# Altium schematic symbol library Microcontroller tinyAVR.SchLib: 370 symbols (part 2 of 11)
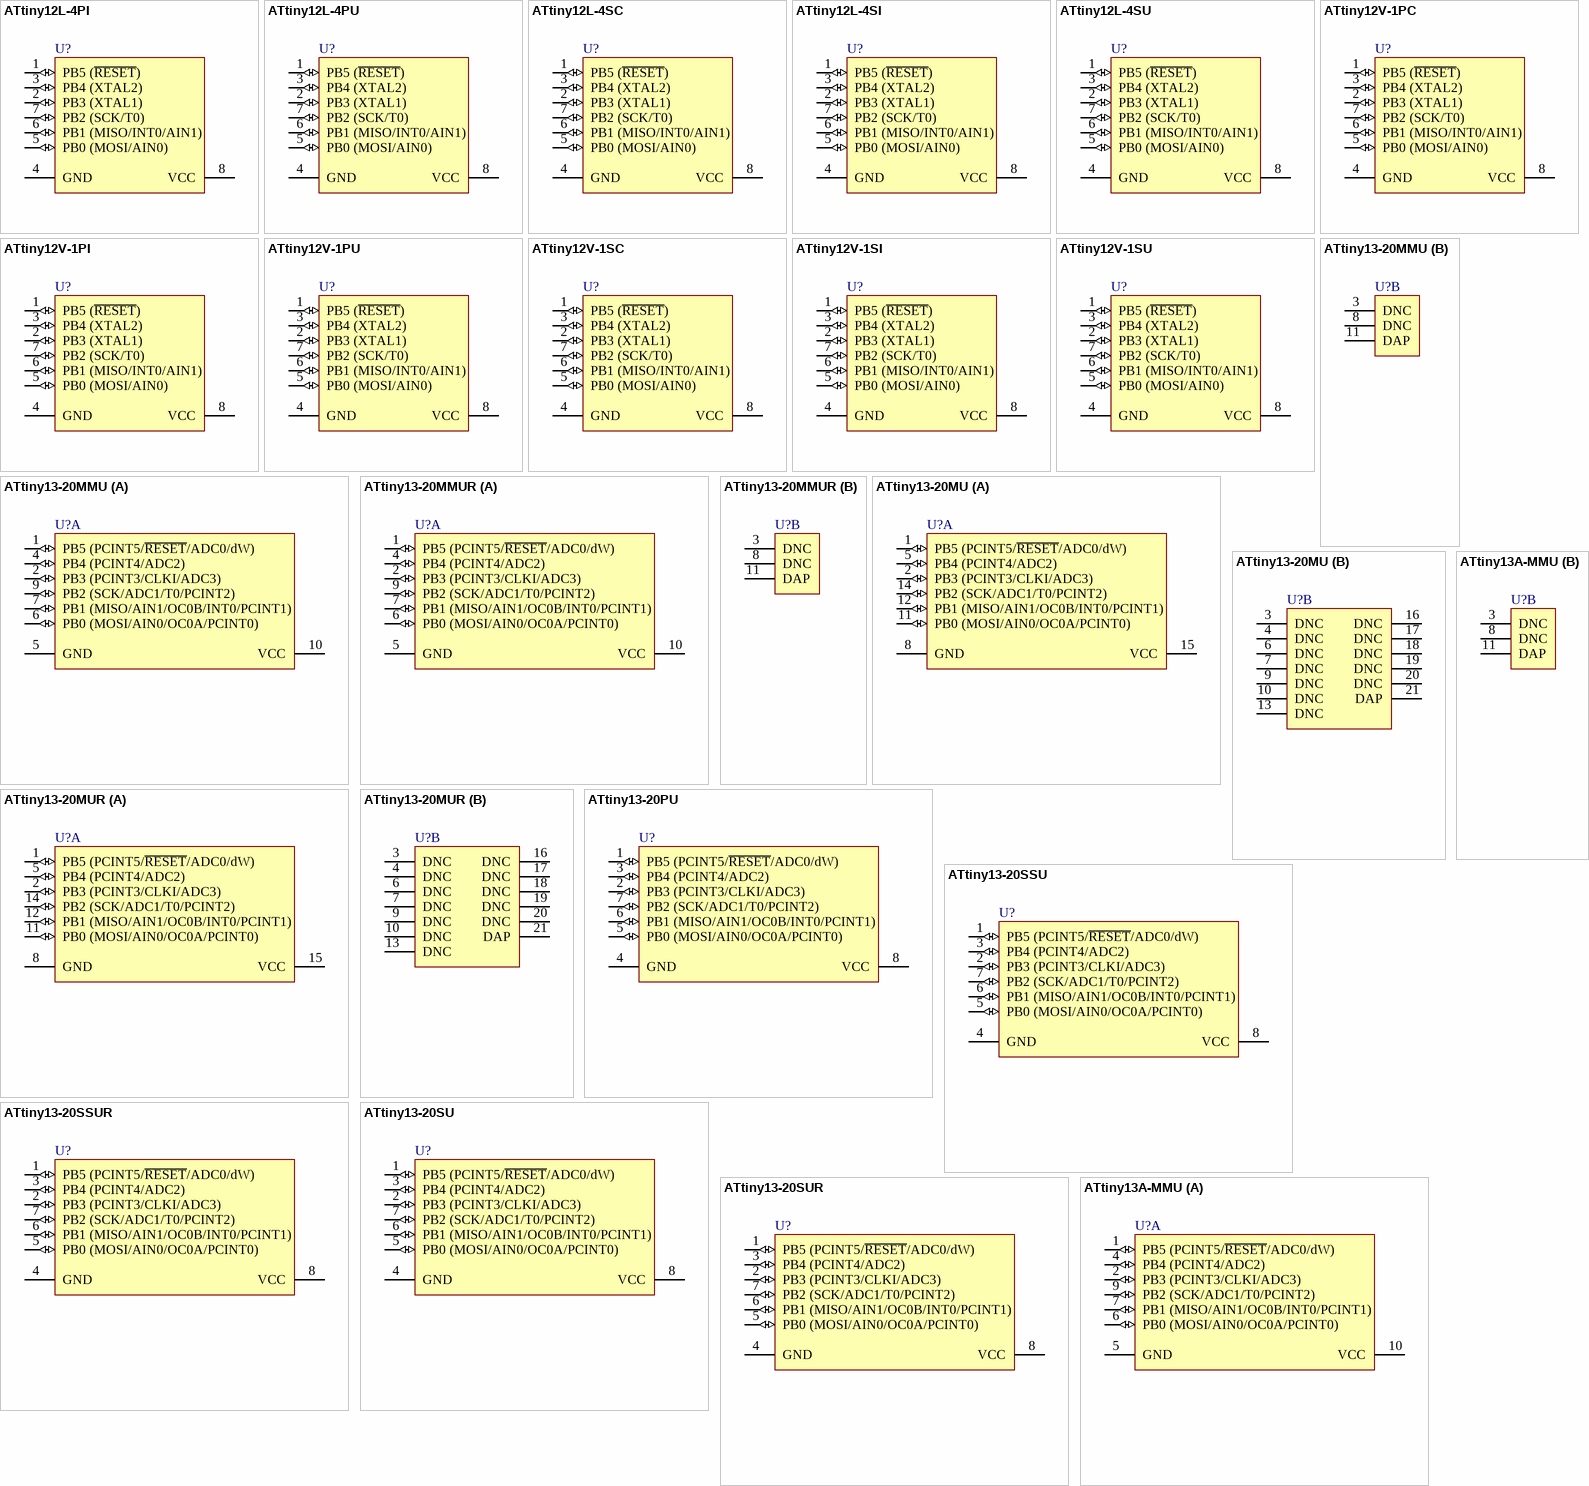
[diagram p27: symbols ATtiny12L-4PI to ATtiny13A-MMU]

## ATtiny13-20PU
designator U?
8-bit AVR Microcontroller, 2.7-5.5V, 1KB Flash, 64 Bytes EEPROM, 64 Bytes SRAM, 8-pin PDIP, Industrial Grade (-40°C to 85°C), Pb-Free; DatasheetVersion: revJ, Aug-2010; PackageVersion: revB, Jan-2002; PackageReference: 8P3; PackageDescription: 8-Lead, 0.300" Wide Body, Plastic Dual In-Line Package (PDIP); Code_JEDEC: MS-001-BA; ComponentLink1Description: Manufacturer URL; ComponentLink1URL: http://www.atmel.com/; ComponentLink2Description: ATtiny13  Datasheet; ComponentLink2URL: http://www.atmel.com/dyn/resources/prod_documents/doc2535.pdf; ComponentLink3Description: ATtiny13 Summary; ComponentLink3URL: http://www.atmel.com/dyn/resources/prod_documents/2535S.pdf
footprint 8P3 (DIP, 8-Leads, Row Spacing 7.62mm, Pitch 2.54mm, Body 9.59x6.61mm)
pins: 1 PB5 (PCINT5/~{RESET}/ADC0/dW) (io), 2 PB3 (PCINT3/CLKI/ADC3) (io), 3 PB4 (PCINT4/ADC2) (io), 4 GND (power), 5 PB0 (MOSI/AIN0/OC0A/PCINT0) (io), 6 PB1 (MISO/AIN1/OC0B/INT0/PCINT1) (io), 7 PB2 (SCK/ADC1/T0/PCINT2) (io), 8 VCC (power)

## ATtiny13-20SSU
designator U?
8-bit AVR Microcontroller, 2.7-5.5V, 1KB Flash, 64 Bytes EEPROM, 64 Bytes SRAM, 8-pin SOIC, Industrial Grade (-40°C to 85°C), Pb-Free; DatasheetVersion: revJ, Aug-2010; PackageVersion: revA, Oct-2001; PackageReference: S8S1; PackageDescription: 8-Lead (0.150" Wide Body), Plastic Gull Wing Small Outline (JEDEC SOIC); Code_JEDEC: MS-012; Code_IPC: SOIC127P600-8; ComponentLink1Description: Manufacturer URL; ComponentLink1URL: http://www.atmel.com/; ComponentLink2Description: ATtiny13  Datasheet; ComponentLink2URL: http://www.atmel.com/dyn/resources/prod_documents/doc2535.pdf; ComponentLink3Description: ATtiny13 Summary; ComponentLink3URL: http://www.atmel.com/dyn/resources/prod_documents/2535S.pdf
footprint S8S1_N (SOIC, 8-Leads, Body 4.9x3.9mm, Pitch 1.27mm, IPC Medium Density)
footprint S8S1_L (SOIC, 8-Leads, Body 4.9x3.9mm, Pitch 1.27mm, IPC High Density)
footprint S8S1_M (SOIC, 8-Leads, Body 4.9x3.9mm, Pitch 1.27mm, IPC Low Density)
pins: 1 PB5 (PCINT5/~{RESET}/ADC0/dW) (io), 2 PB3 (PCINT3/CLKI/ADC3) (io), 3 PB4 (PCINT4/ADC2) (io), 4 GND (power), 5 PB0 (MOSI/AIN0/OC0A/PCINT0) (io), 6 PB1 (MISO/AIN1/OC0B/INT0/PCINT1) (io), 7 PB2 (SCK/ADC1/T0/PCINT2) (io), 8 VCC (power)

## ATtiny13-20SSUR
designator U?
8-bit AVR Microcontroller, 2.7-5.5V, 1KB Flash, 64 Bytes EEPROM, 64 Bytes SRAM, 8-pin SOIC, Industrial Grade (-40°C to 85°C), Pb-Free, Reel; DatasheetVersion: revJ, Aug-2010; PackageVersion: revA, Oct-2001; PackageReference: S8S1; PackageDescription: 8-Lead (0.150" Wide Body), Plastic Gull Wing Small Outline (JEDEC SOIC); Code_JEDEC: MS-012; Code_IPC: SOIC127P600-8; ComponentLink1Description: Manufacturer URL; ComponentLink1URL: http://www.atmel.com/; ComponentLink2Description: ATtiny13  Datasheet; ComponentLink2URL: http://www.atmel.com/dyn/resources/prod_documents/doc2535.pdf; ComponentLink3Description: ATtiny13 Summary; ComponentLink3URL: http://www.atmel.com/dyn/resources/prod_documents/2535S.pdf
footprint S8S1_N (SOIC, 8-Leads, Body 4.9x3.9mm, Pitch 1.27mm, IPC Medium Density)
footprint S8S1_L (SOIC, 8-Leads, Body 4.9x3.9mm, Pitch 1.27mm, IPC High Density)
footprint S8S1_M (SOIC, 8-Leads, Body 4.9x3.9mm, Pitch 1.27mm, IPC Low Density)
pins: 1 PB5 (PCINT5/~{RESET}/ADC0/dW) (io), 2 PB3 (PCINT3/CLKI/ADC3) (io), 3 PB4 (PCINT4/ADC2) (io), 4 GND (power), 5 PB0 (MOSI/AIN0/OC0A/PCINT0) (io), 6 PB1 (MISO/AIN1/OC0B/INT0/PCINT1) (io), 7 PB2 (SCK/ADC1/T0/PCINT2) (io), 8 VCC (power)

## ATtiny13-20SU
designator U?
8-bit AVR Microcontroller, 2.7-5.5V, 1KB Flash, 64 Bytes EEPROM, 64 Bytes SRAM, 8-pin SOIC, Industrial Grade (-40°C to 85°C), Pb-Free; DatasheetVersion: revJ, Aug-2010; PackageVersion: revF, Apr-2008; PackageReference: 8S2; PackageDescription: 8-Lead, 0.208" Body, Plastic Small Outline Package (EIAJ); ComponentLink1Description: Manufacturer URL; ComponentLink1URL: http://www.atmel.com/; ComponentLink2Description: ATtiny13  Datasheet; ComponentLink2URL: http://www.atmel.com/dyn/resources/prod_documents/doc2535.pdf; ComponentLink3Description: ATtiny13 Summary; ComponentLink3URL: http://www.atmel.com/dyn/resources/prod_documents/2535S.pdf
footprint 8S2_N (SOP, 8-Leads, Body 5.3x5.3mm, Pitch 1.27mm, IPC Medium Density)
footprint 8S2_L (SOP, 8-Leads, Body 5.3x5.3mm, Pitch 1.27mm, IPC High Density)
footprint 8S2_M (SOP, 8-Leads, Body 5.3x5.3mm, Pitch 1.27mm, IPC Low Density)
pins: 1 PB5 (PCINT5/~{RESET}/ADC0/dW) (io), 2 PB3 (PCINT3/CLKI/ADC3) (io), 3 PB4 (PCINT4/ADC2) (io), 4 GND (power), 5 PB0 (MOSI/AIN0/OC0A/PCINT0) (io), 6 PB1 (MISO/AIN1/OC0B/INT0/PCINT1) (io), 7 PB2 (SCK/ADC1/T0/PCINT2) (io), 8 VCC (power)

## ATtiny13-20SUR
designator U?
8-bit AVR Microcontroller, 2.7-5.5V, 1KB Flash, 64 Bytes EEPROM, 64 Bytes SRAM, 8-pin SOIC, Industrial Grade (-40°C to 85°C), Pb-Free, Reel; DatasheetVersion: revJ, Aug-2010; PackageVersion: revF, Apr-2008; PackageReference: 8S2; PackageDescription: 8-Lead, 0.208" Body, Plastic Small Outline Package (EIAJ); ComponentLink1Description: Manufacturer URL; ComponentLink1URL: http://www.atmel.com/; ComponentLink2Description: ATtiny13  Datasheet; ComponentLink2URL: http://www.atmel.com/dyn/resources/prod_documents/doc2535.pdf; ComponentLink3Description: ATtiny13 Summary; ComponentLink3URL: http://www.atmel.com/dyn/resources/prod_documents/2535S.pdf
footprint 8S2_N (SOP, 8-Leads, Body 5.3x5.3mm, Pitch 1.27mm, IPC Medium Density)
footprint 8S2_L (SOP, 8-Leads, Body 5.3x5.3mm, Pitch 1.27mm, IPC High Density)
footprint 8S2_M (SOP, 8-Leads, Body 5.3x5.3mm, Pitch 1.27mm, IPC Low Density)
pins: 1 PB5 (PCINT5/~{RESET}/ADC0/dW) (io), 2 PB3 (PCINT3/CLKI/ADC3) (io), 3 PB4 (PCINT4/ADC2) (io), 4 GND (power), 5 PB0 (MOSI/AIN0/OC0A/PCINT0) (io), 6 PB1 (MISO/AIN1/OC0B/INT0/PCINT1) (io), 7 PB2 (SCK/ADC1/T0/PCINT2) (io), 8 VCC (power)

## ATtiny13A-MMU
designator U?
8-bit AVR Microcontroller, 1.8-5.5V, 20MHz, 1KB Flash, 64 Bytes EEPROM, 64 Bytes SRAM, 10-pin MLF, Industrial Grade (-40°C to 85°C), Pb-Free; DatasheetVersion: revE, Jul-2010; PackageVersion: revA, Jul-2006; PackageReference: 10M1; PackageDescription: 10-pad, 3 x 3 x 1.0 mm Body, Lead Pitch 0.50 mm, 1.64 x 2.60 mm Exposed pad, Micro Lead Frame Package; Code_JEDEC: MO-229-VEED-5; ComponentLink1Description: Manufacturer URL; ComponentLink1URL: http://www.atmel.com/; ComponentLink2Description: ATtiny13A Datasheet; ComponentLink2URL: http://www.atmel.com/dyn/resources/prod_documents/doc8126.pdf; ComponentLink3Description: ATtiny13A Summary; ComponentLink3URL: http://www.atmel.com/dyn/resources/prod_documents/8126S.pdf
footprint 10M1_N (SON, 10-Leads, Body 3x3 mm, Pitch 0.5mm, IPC Medium Density)
footprint 10M1_L (SON, 10-Leads, Body 3x3 mm, Pitch 0.5mm, IPC High Density)
footprint 10M1_M (SON, 10-Leads, Body 3x3 mm, Pitch 0.5mm, IPC Low Density)
part A pins: 1 PB5 (PCINT5/~{RESET}/ADC0/dW) (io), 2 PB3 (PCINT3/CLKI/ADC3) (io), 4 PB4 (PCINT4/ADC2) (io), 5 GND (power), 6 PB0 (MOSI/AIN0/OC0A/PCINT0) (io), 7 PB1 (MISO/AIN1/OC0B/INT0/PCINT1) (io), 9 PB2 (SCK/ADC1/T0/PCINT2) (io), 10 VCC (power)
part B pins: 3 DNC, 8 DNC, 11 DAP

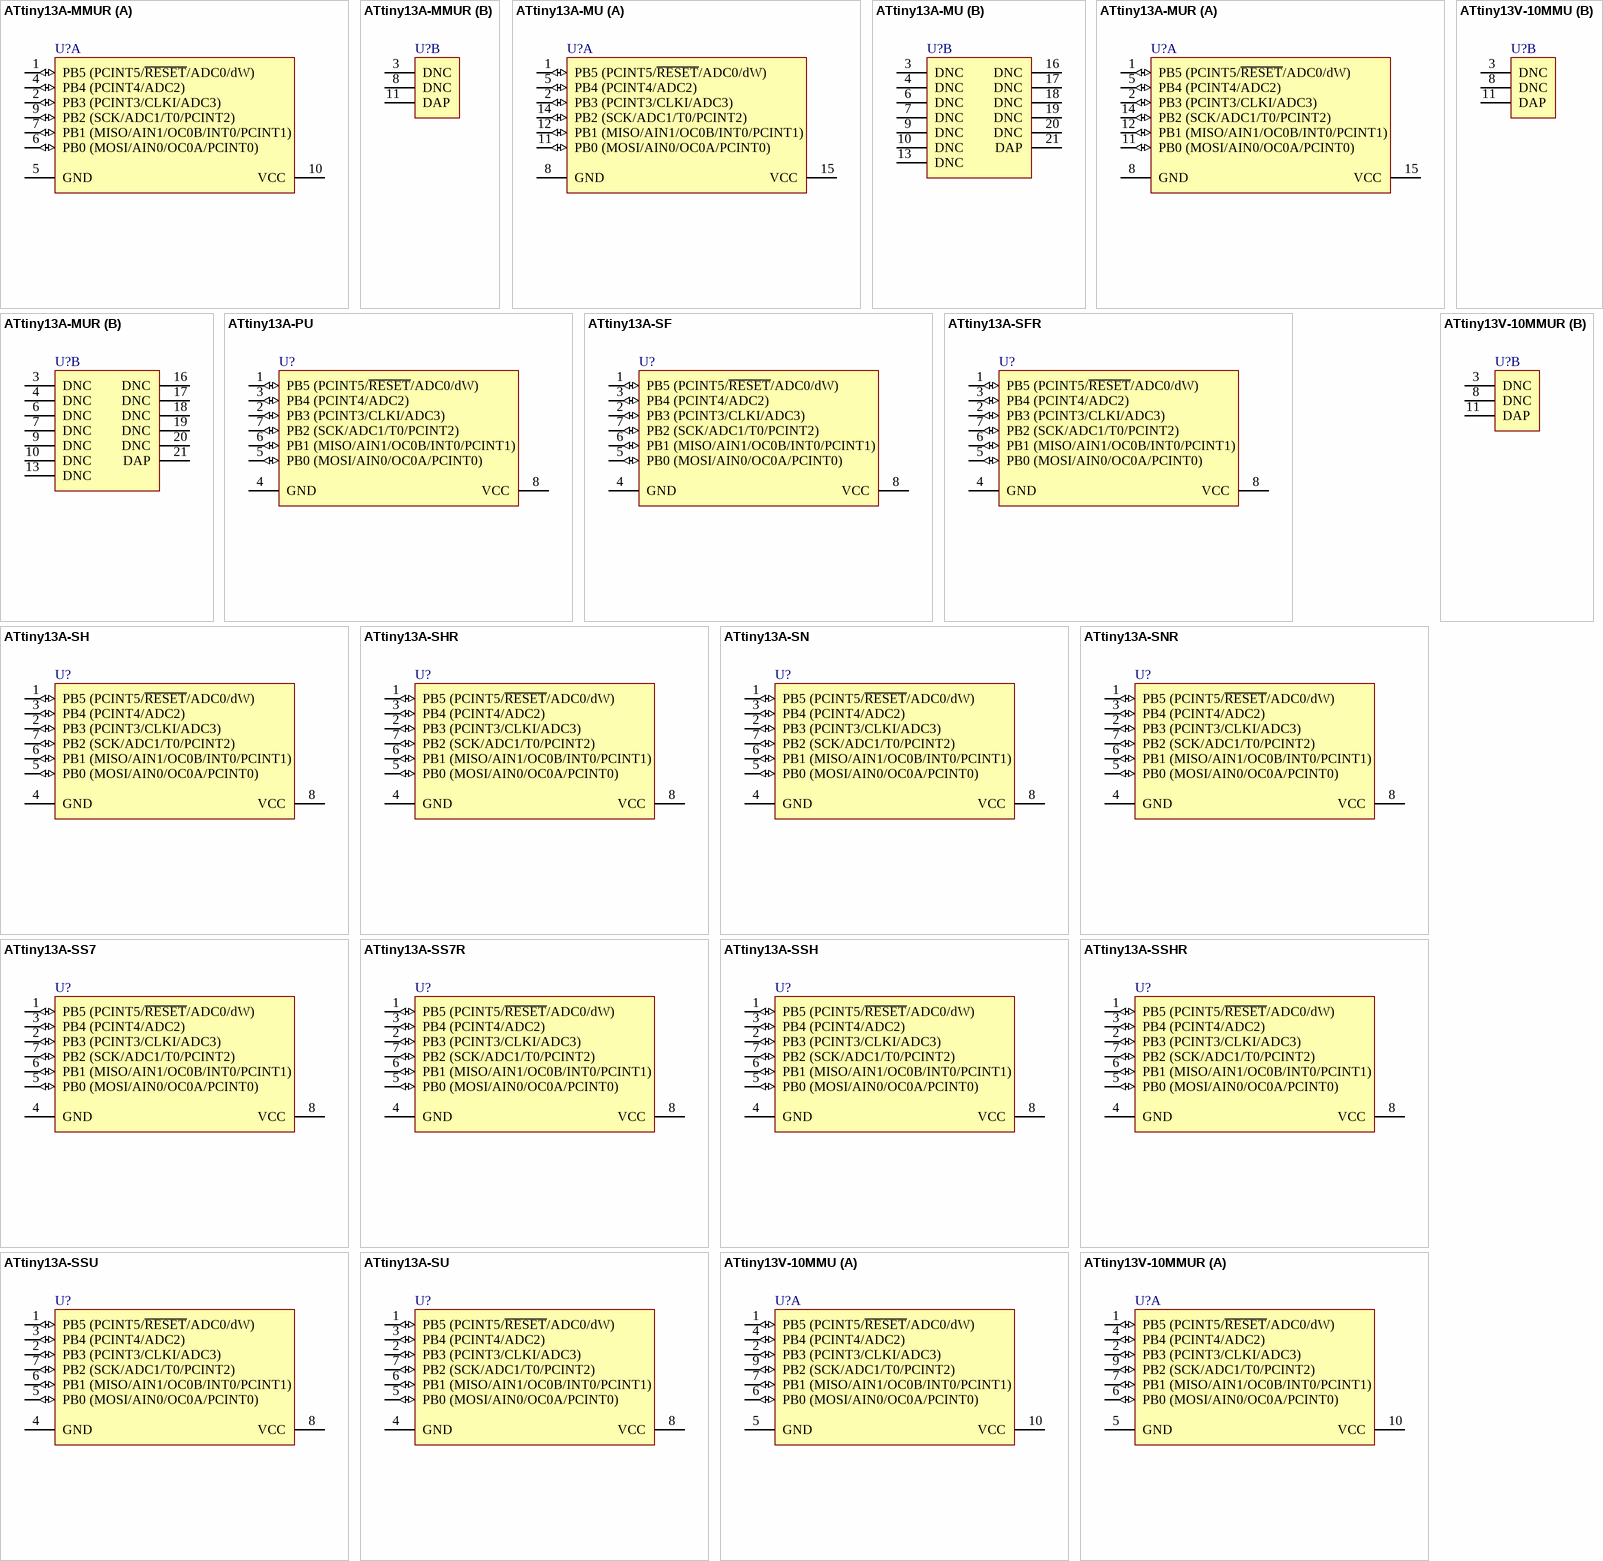
[diagram p2: symbols ATtiny13A-MMUR to ATtiny13V-10MMUR]

## ATtiny13A-MMUR
designator U?
8-bit AVR Microcontroller, 1.8-5.5V, 20MHz, 1KB Flash, 64 Bytes EEPROM, 64 Bytes SRAM, 10-pin MLF, Industrial Grade (-40°C to 85°C), Pb-Free, Reel; DatasheetVersion: revE, Jul-2010; PackageVersion: revA, Jul-2006; PackageReference: 10M1; PackageDescription: 10-pad, 3 x 3 x 1.0 mm Body, Lead Pitch 0.50 mm, 1.64 x 2.60 mm Exposed pad, Micro Lead Frame Package; Code_JEDEC: MO-229-VEED-5; ComponentLink1Description: Manufacturer URL; ComponentLink1URL: http://www.atmel.com/; ComponentLink2Description: ATtiny13A Datasheet; ComponentLink2URL: http://www.atmel.com/dyn/resources/prod_documents/doc8126.pdf; ComponentLink3Description: ATtiny13A Summary; ComponentLink3URL: http://www.atmel.com/dyn/resources/prod_documents/8126S.pdf
footprint 10M1_N (SON, 10-Leads, Body 3x3 mm, Pitch 0.5mm, IPC Medium Density)
footprint 10M1_L (SON, 10-Leads, Body 3x3 mm, Pitch 0.5mm, IPC High Density)
footprint 10M1_M (SON, 10-Leads, Body 3x3 mm, Pitch 0.5mm, IPC Low Density)
part A pins: 1 PB5 (PCINT5/~{RESET}/ADC0/dW) (io), 2 PB3 (PCINT3/CLKI/ADC3) (io), 4 PB4 (PCINT4/ADC2) (io), 5 GND (power), 6 PB0 (MOSI/AIN0/OC0A/PCINT0) (io), 7 PB1 (MISO/AIN1/OC0B/INT0/PCINT1) (io), 9 PB2 (SCK/ADC1/T0/PCINT2) (io), 10 VCC (power)
part B pins: 3 DNC, 8 DNC, 11 DAP

## ATtiny13A-MU
designator U?
8-bit AVR Microcontroller, 1.8-5.5V, 20MHz, 1KB Flash, 64 Bytes EEPROM, 64 Bytes SRAM, 20-pin MLF, Industrial Grade (-40°C to 85°C), Pb-Free; DatasheetVersion: revE, Jul-2010; PackageVersion: revA, Oct-2004; PackageReference: 20M1; PackageDescription: 20-pad, 4 x 4 x 0.8 mm Body, Lead Pitch 0.50 mm, 2.6 mm Exposed Pad, Micro Lead Frame Package (MLF); Code_JEDEC: MO-220WGGD-5; ComponentLink1Description: Manufacturer URL; ComponentLink1URL: http://www.atmel.com/; ComponentLink2Description: ATtiny13A Datasheet; ComponentLink2URL: http://www.atmel.com/dyn/resources/prod_documents/doc8126.pdf; ComponentLink3Description: ATtiny13A Summary; ComponentLink3URL: http://www.atmel.com/dyn/resources/prod_documents/8126S.pdf
footprint 20M1_N (QFN, 20-Leads, Body 4x4mm, Pitch 0.5mm, Thermal Pad 2.7x2.7mm, IPC Medium Density)
footprint 20M1_L (QFN, 20-Leads, Body 4x4mm, Pitch 0.5mm, Thermal Pad 2.7x2.7mm, IPC High Density)
footprint 20M1_M (QFN, 20-Leads, Body 4x4mm, Pitch 0.5mm, Thermal Pad 2.7x2.7mm, IPC Low Density)
part A pins: 1 PB5 (PCINT5/~{RESET}/ADC0/dW) (io), 2 PB3 (PCINT3/CLKI/ADC3) (io), 5 PB4 (PCINT4/ADC2) (io), 8 GND (power), 11 PB0 (MOSI/AIN0/OC0A/PCINT0) (io), 12 PB1 (MISO/AIN1/OC0B/INT0/PCINT1) (io), 14 PB2 (SCK/ADC1/T0/PCINT2) (io), 15 VCC (power)
part B pins: 3 DNC, 4 DNC, 6 DNC, 7 DNC, 9 DNC, 10 DNC, 13 DNC, 16 DNC, 17 DNC, 18 DNC, 19 DNC, 20 DNC, 21 DAP (power)

## ATtiny13A-MUR
designator U?
8-bit AVR Microcontroller, 1.8-5.5V, 20MHz, 1KB Flash, 64 Bytes EEPROM, 64 Bytes SRAM, 20-pin MLF, Industrial Grade (-40°C to 85°C), Pb-Free, Reel; DatasheetVersion: revE, Jul-2010; PackageVersion: revA, Oct-2004; PackageReference: 20M1; PackageDescription: 20-pad, 4 x 4 x 0.8 mm Body, Lead Pitch 0.50 mm, 2.6 mm Exposed Pad, Micro Lead Frame Package (MLF); Code_JEDEC: MO-220WGGD-5; ComponentLink1Description: Manufacturer URL; ComponentLink1URL: http://www.atmel.com/; ComponentLink2Description: ATtiny13A Datasheet; ComponentLink2URL: http://www.atmel.com/dyn/resources/prod_documents/doc8126.pdf; ComponentLink3Description: ATtiny13A Summary; ComponentLink3URL: http://www.atmel.com/dyn/resources/prod_documents/8126S.pdf
footprint 20M1_N (QFN, 20-Leads, Body 4x4mm, Pitch 0.5mm, Thermal Pad 2.7x2.7mm, IPC Medium Density)
footprint 20M1_L (QFN, 20-Leads, Body 4x4mm, Pitch 0.5mm, Thermal Pad 2.7x2.7mm, IPC High Density)
footprint 20M1_M (QFN, 20-Leads, Body 4x4mm, Pitch 0.5mm, Thermal Pad 2.7x2.7mm, IPC Low Density)
part A pins: 1 PB5 (PCINT5/~{RESET}/ADC0/dW) (io), 2 PB3 (PCINT3/CLKI/ADC3) (io), 5 PB4 (PCINT4/ADC2) (io), 8 GND (power), 11 PB0 (MOSI/AIN0/OC0A/PCINT0) (io), 12 PB1 (MISO/AIN1/OC0B/INT0/PCINT1) (io), 14 PB2 (SCK/ADC1/T0/PCINT2) (io), 15 VCC (power)
part B pins: 3 DNC, 4 DNC, 6 DNC, 7 DNC, 9 DNC, 10 DNC, 13 DNC, 16 DNC, 17 DNC, 18 DNC, 19 DNC, 20 DNC, 21 DAP (power)

## ATtiny13A-PU
designator U?
8-bit AVR Microcontroller, 1.8-5.5V, 20MHz, 1KB Flash, 64 Bytes EEPROM, 64 Bytes SRAM, 8-pin PDIP, Industrial Grade (-40°C to 85°C), Pb-Free; DatasheetVersion: revE, Jul-2010; PackageVersion: revB, Jan-2002; PackageReference: 8P3; PackageDescription: 8-Lead, 0.300" Wide Body, Plastic Dual In-Line Package (PDIP); Code_JEDEC: MS-001-BA; ComponentLink1Description: Manufacturer URL; ComponentLink1URL: http://www.atmel.com/; ComponentLink2Description: ATtiny13A Datasheet; ComponentLink2URL: http://www.atmel.com/dyn/resources/prod_documents/doc8126.pdf; ComponentLink3Description: ATtiny13A Summary; ComponentLink3URL: http://www.atmel.com/dyn/resources/prod_documents/8126S.pdf
footprint 8P3 (DIP, 8-Leads, Row Spacing 7.62mm, Pitch 2.54mm, Body 9.59x6.61mm)
pins: 1 PB5 (PCINT5/~{RESET}/ADC0/dW) (io), 2 PB3 (PCINT3/CLKI/ADC3) (io), 3 PB4 (PCINT4/ADC2) (io), 4 GND (power), 5 PB0 (MOSI/AIN0/OC0A/PCINT0) (io), 6 PB1 (MISO/AIN1/OC0B/INT0/PCINT1) (io), 7 PB2 (SCK/ADC1/T0/PCINT2) (io), 8 VCC (power)

## ATtiny13A-SF
designator U?
8-bit AVR Microcontroller, 1.8-5.5V, 20MHz, 1KB Flash, 64 Bytes EEPROM, 64 Bytes SRAM, 8-pin SOIC, Industrial Grade (-40°C to 125°C), Pb-Free; DatasheetVersion: revE, Jul-2010; PackageVersion: revF, Apr-2008; PackageReference: 8S2; PackageDescription: 8-Lead, 0.208" Body, Plastic Small Outline Package (EIAJ); ComponentLink1Description: Manufacturer URL; ComponentLink1URL: http://www.atmel.com/; ComponentLink2Description: ATtiny13A Datasheet; ComponentLink2URL: http://www.atmel.com/dyn/resources/prod_documents/doc8126.pdf; ComponentLink3Description: ATtiny13A Summary; ComponentLink3URL: http://www.atmel.com/dyn/resources/prod_documents/8126S.pdf
footprint 8S2_N (SOP, 8-Leads, Body 5.3x5.3mm, Pitch 1.27mm, IPC Medium Density)
footprint 8S2_L (SOP, 8-Leads, Body 5.3x5.3mm, Pitch 1.27mm, IPC High Density)
footprint 8S2_M (SOP, 8-Leads, Body 5.3x5.3mm, Pitch 1.27mm, IPC Low Density)
pins: 1 PB5 (PCINT5/~{RESET}/ADC0/dW) (io), 2 PB3 (PCINT3/CLKI/ADC3) (io), 3 PB4 (PCINT4/ADC2) (io), 4 GND (power), 5 PB0 (MOSI/AIN0/OC0A/PCINT0) (io), 6 PB1 (MISO/AIN1/OC0B/INT0/PCINT1) (io), 7 PB2 (SCK/ADC1/T0/PCINT2) (io), 8 VCC (power)

## ATtiny13A-SFR
designator U?
8-bit AVR Microcontroller, 1.8-5.5V, 20MHz, 1KB Flash, 64 Bytes EEPROM, 64 Bytes SRAM, 8-pin SOIC, Industrial Grade (-40°C to 125°C), Pb-Free, Reel; DatasheetVersion: revE, Jul-2010; PackageVersion: revF, Apr-2008; PackageReference: 8S2; PackageDescription: 8-Lead, 0.208" Body, Plastic Small Outline Package (EIAJ); ComponentLink1Description: Manufacturer URL; ComponentLink1URL: http://www.atmel.com/; ComponentLink2Description: ATtiny13A Datasheet; ComponentLink2URL: http://www.atmel.com/dyn/resources/prod_documents/doc8126.pdf; ComponentLink3Description: ATtiny13A Summary; ComponentLink3URL: http://www.atmel.com/dyn/resources/prod_documents/8126S.pdf
footprint 8S2_N (SOP, 8-Leads, Body 5.3x5.3mm, Pitch 1.27mm, IPC Medium Density)
footprint 8S2_L (SOP, 8-Leads, Body 5.3x5.3mm, Pitch 1.27mm, IPC High Density)
footprint 8S2_M (SOP, 8-Leads, Body 5.3x5.3mm, Pitch 1.27mm, IPC Low Density)
pins: 1 PB5 (PCINT5/~{RESET}/ADC0/dW) (io), 2 PB3 (PCINT3/CLKI/ADC3) (io), 3 PB4 (PCINT4/ADC2) (io), 4 GND (power), 5 PB0 (MOSI/AIN0/OC0A/PCINT0) (io), 6 PB1 (MISO/AIN1/OC0B/INT0/PCINT1) (io), 7 PB2 (SCK/ADC1/T0/PCINT2) (io), 8 VCC (power)

## ATtiny13A-SH
designator U?
8-bit AVR Microcontroller, 1.8-5.5V, 20MHz, 1KB Flash, 64 Bytes EEPROM, 64 Bytes SRAM, 8-pin SOIC, Industrial Grade (-40°C to 85°C), Pb-Free; DatasheetVersion: revE, Jul-2010; PackageVersion: revF, Apr-2008; PackageReference: 8S2; PackageDescription: 8-Lead, 0.208" Body, Plastic Small Outline Package (EIAJ); ComponentLink1Description: Manufacturer URL; ComponentLink1URL: http://www.atmel.com/; ComponentLink2Description: ATtiny13A Datasheet; ComponentLink2URL: http://www.atmel.com/dyn/resources/prod_documents/doc8126.pdf; ComponentLink3Description: ATtiny13A Summary; ComponentLink3URL: http://www.atmel.com/dyn/resources/prod_documents/8126S.pdf
footprint 8S2_N (SOP, 8-Leads, Body 5.3x5.3mm, Pitch 1.27mm, IPC Medium Density)
footprint 8S2_L (SOP, 8-Leads, Body 5.3x5.3mm, Pitch 1.27mm, IPC High Density)
footprint 8S2_M (SOP, 8-Leads, Body 5.3x5.3mm, Pitch 1.27mm, IPC Low Density)
pins: 1 PB5 (PCINT5/~{RESET}/ADC0/dW) (io), 2 PB3 (PCINT3/CLKI/ADC3) (io), 3 PB4 (PCINT4/ADC2) (io), 4 GND (power), 5 PB0 (MOSI/AIN0/OC0A/PCINT0) (io), 6 PB1 (MISO/AIN1/OC0B/INT0/PCINT1) (io), 7 PB2 (SCK/ADC1/T0/PCINT2) (io), 8 VCC (power)

## ATtiny13A-SHR
designator U?
8-bit AVR Microcontroller, 1.8-5.5V, 20MHz, 1KB Flash, 64 Bytes EEPROM, 64 Bytes SRAM, 8-pin SOIC, Industrial Grade (-40°C to 85°C), Pb-Free, Reel; DatasheetVersion: revE, Jul-2010; PackageVersion: revF, Apr-2008; PackageReference: 8S2; PackageDescription: 8-Lead, 0.208" Body, Plastic Small Outline Package (EIAJ); ComponentLink1Description: Manufacturer URL; ComponentLink1URL: http://www.atmel.com/; ComponentLink2Description: ATtiny13A Datasheet; ComponentLink2URL: http://www.atmel.com/dyn/resources/prod_documents/doc8126.pdf; ComponentLink3Description: ATtiny13A Summary; ComponentLink3URL: http://www.atmel.com/dyn/resources/prod_documents/8126S.pdf
footprint 8S2_N (SOP, 8-Leads, Body 5.3x5.3mm, Pitch 1.27mm, IPC Medium Density)
footprint 8S2_L (SOP, 8-Leads, Body 5.3x5.3mm, Pitch 1.27mm, IPC High Density)
footprint 8S2_M (SOP, 8-Leads, Body 5.3x5.3mm, Pitch 1.27mm, IPC Low Density)
pins: 1 PB5 (PCINT5/~{RESET}/ADC0/dW) (io), 2 PB3 (PCINT3/CLKI/ADC3) (io), 3 PB4 (PCINT4/ADC2) (io), 4 GND (power), 5 PB0 (MOSI/AIN0/OC0A/PCINT0) (io), 6 PB1 (MISO/AIN1/OC0B/INT0/PCINT1) (io), 7 PB2 (SCK/ADC1/T0/PCINT2) (io), 8 VCC (power)

## ATtiny13A-SN
designator U?
8-bit AVR Microcontroller, 1.8-5.5V, 20MHz, 1KB Flash, 64 Bytes EEPROM, 64 Bytes SRAM, 8-pin SOIC, Industrial Grade (-40°C to 105°C), Pb-Free; DatasheetVersion: revE, Jul-2010; PackageVersion: revF, Apr-2008; PackageReference: 8S2; PackageDescription: 8-Lead, 0.208" Body, Plastic Small Outline Package (EIAJ); ComponentLink1Description: Manufacturer URL; ComponentLink1URL: http://www.atmel.com/; ComponentLink2Description: ATtiny13A Datasheet; ComponentLink2URL: http://www.atmel.com/dyn/resources/prod_documents/doc8126.pdf; ComponentLink3Description: ATtiny13A Summary; ComponentLink3URL: http://www.atmel.com/dyn/resources/prod_documents/8126S.pdf
footprint 8S2_N (SOP, 8-Leads, Body 5.3x5.3mm, Pitch 1.27mm, IPC Medium Density)
footprint 8S2_L (SOP, 8-Leads, Body 5.3x5.3mm, Pitch 1.27mm, IPC High Density)
footprint 8S2_M (SOP, 8-Leads, Body 5.3x5.3mm, Pitch 1.27mm, IPC Low Density)
pins: 1 PB5 (PCINT5/~{RESET}/ADC0/dW) (io), 2 PB3 (PCINT3/CLKI/ADC3) (io), 3 PB4 (PCINT4/ADC2) (io), 4 GND (power), 5 PB0 (MOSI/AIN0/OC0A/PCINT0) (io), 6 PB1 (MISO/AIN1/OC0B/INT0/PCINT1) (io), 7 PB2 (SCK/ADC1/T0/PCINT2) (io), 8 VCC (power)

## ATtiny13A-SNR
designator U?
8-bit AVR Microcontroller, 1.8-5.5V, 20MHz, 1KB Flash, 64 Bytes EEPROM, 64 Bytes SRAM, 8-pin SOIC, Industrial Grade (-40°C to 105°C), Pb-Free, Reel; DatasheetVersion: revE, Jul-2010; PackageVersion: revF, Apr-2008; PackageReference: 8S2; PackageDescription: 8-Lead, 0.208" Body, Plastic Small Outline Package (EIAJ); ComponentLink1Description: Manufacturer URL; ComponentLink1URL: http://www.atmel.com/; ComponentLink2Description: ATtiny13A Datasheet; ComponentLink2URL: http://www.atmel.com/dyn/resources/prod_documents/doc8126.pdf; ComponentLink3Description: ATtiny13A Summary; ComponentLink3URL: http://www.atmel.com/dyn/resources/prod_documents/8126S.pdf
footprint 8S2_N (SOP, 8-Leads, Body 5.3x5.3mm, Pitch 1.27mm, IPC Medium Density)
footprint 8S2_L (SOP, 8-Leads, Body 5.3x5.3mm, Pitch 1.27mm, IPC High Density)
footprint 8S2_M (SOP, 8-Leads, Body 5.3x5.3mm, Pitch 1.27mm, IPC Low Density)
pins: 1 PB5 (PCINT5/~{RESET}/ADC0/dW) (io), 2 PB3 (PCINT3/CLKI/ADC3) (io), 3 PB4 (PCINT4/ADC2) (io), 4 GND (power), 5 PB0 (MOSI/AIN0/OC0A/PCINT0) (io), 6 PB1 (MISO/AIN1/OC0B/INT0/PCINT1) (io), 7 PB2 (SCK/ADC1/T0/PCINT2) (io), 8 VCC (power)

## ATtiny13A-SS7
designator U?
8-bit AVR Microcontroller, 1.8-5.5V, 20MHz, 1KB Flash, 64 Bytes EEPROM, 64 Bytes SRAM, 8-pin SOIC, Industrial Grade (-40°C to 105°C), Pb-Free; DatasheetVersion: revE, Jul-2010; PackageVersion: revC, Mar-2005; PackageReference: 8S1; PackageDescription: 8-Lead (0.150" Wide Body), Plastic Gull Wing Small Outline (JEDEC SOIC); Code_JEDEC: MS-012-AA; Code_IPC: SOIC127P600-8; ComponentLink1Description: Manufacturer URL; ComponentLink1URL: http://www.atmel.com/; ComponentLink2Description: ATtiny13A Datasheet; ComponentLink2URL: http://www.atmel.com/dyn/resources/prod_documents/doc8126.pdf; ComponentLink3Description: ATtiny13A Summary; ComponentLink3URL: http://www.atmel.com/dyn/resources/prod_documents/8126S.pdf
footprint 8S1_N (SOIC, 8-Leads, Body 4.9x3.9mm, Pitch 1.27mm, IPC Medium Density)
footprint 8S1_L (SOIC, 8-Leads, Body 4.9x3.9mm, Pitch 1.27mm, IPC High Density)
footprint 8S1_M (SOIC, 8-Leads, Body 4.9x3.9mm, Pitch 1.27mm, IPC Low Density)
pins: 1 PB5 (PCINT5/~{RESET}/ADC0/dW) (io), 2 PB3 (PCINT3/CLKI/ADC3) (io), 3 PB4 (PCINT4/ADC2) (io), 4 GND (power), 5 PB0 (MOSI/AIN0/OC0A/PCINT0) (io), 6 PB1 (MISO/AIN1/OC0B/INT0/PCINT1) (io), 7 PB2 (SCK/ADC1/T0/PCINT2) (io), 8 VCC (power)

## ATtiny13A-SS7R
designator U?
8-bit AVR Microcontroller, 1.8-5.5V, 20MHz, 1KB Flash, 64 Bytes EEPROM, 64 Bytes SRAM, 8-pin SOIC, Industrial Grade (-40°C to 105°C), Pb-Free, Reel; DatasheetVersion: revE, Jul-2010; PackageVersion: revC, Mar-2005; PackageReference: 8S1; PackageDescription: 8-Lead (0.150" Wide Body), Plastic Gull Wing Small Outline (JEDEC SOIC); Code_JEDEC: MS-012-AA; Code_IPC: SOIC127P600-8; ComponentLink1Description: Manufacturer URL; ComponentLink1URL: http://www.atmel.com/; ComponentLink2Description: ATtiny13A Datasheet; ComponentLink2URL: http://www.atmel.com/dyn/resources/prod_documents/doc8126.pdf; ComponentLink3Description: ATtiny13A Summary; ComponentLink3URL: http://www.atmel.com/dyn/resources/prod_documents/8126S.pdf
footprint 8S1_N (SOIC, 8-Leads, Body 4.9x3.9mm, Pitch 1.27mm, IPC Medium Density)
footprint 8S1_L (SOIC, 8-Leads, Body 4.9x3.9mm, Pitch 1.27mm, IPC High Density)
footprint 8S1_M (SOIC, 8-Leads, Body 4.9x3.9mm, Pitch 1.27mm, IPC Low Density)
pins: 1 PB5 (PCINT5/~{RESET}/ADC0/dW) (io), 2 PB3 (PCINT3/CLKI/ADC3) (io), 3 PB4 (PCINT4/ADC2) (io), 4 GND (power), 5 PB0 (MOSI/AIN0/OC0A/PCINT0) (io), 6 PB1 (MISO/AIN1/OC0B/INT0/PCINT1) (io), 7 PB2 (SCK/ADC1/T0/PCINT2) (io), 8 VCC (power)

## ATtiny13A-SSH
designator U?
8-bit AVR Microcontroller, 1.8-5.5V, 20MHz, 1KB Flash, 64 Bytes EEPROM, 64 Bytes SRAM, 8-pin SOIC, Industrial Grade (-40°C to 85°C), Pb-Free; DatasheetVersion: revE, Jul-2010; PackageVersion: revC, Mar-2005; PackageReference: 8S1; PackageDescription: 8-Lead (0.150" Wide Body), Plastic Gull Wing Small Outline (JEDEC SOIC); Code_JEDEC: MS-012-AA; Code_IPC: SOIC127P600-8; ComponentLink1Description: Manufacturer URL; ComponentLink1URL: http://www.atmel.com/; ComponentLink2Description: ATtiny13A Datasheet; ComponentLink2URL: http://www.atmel.com/dyn/resources/prod_documents/doc8126.pdf; ComponentLink3Description: ATtiny13A Summary; ComponentLink3URL: http://www.atmel.com/dyn/resources/prod_documents/8126S.pdf
footprint 8S1_N (SOIC, 8-Leads, Body 4.9x3.9mm, Pitch 1.27mm, IPC Medium Density)
footprint 8S1_L (SOIC, 8-Leads, Body 4.9x3.9mm, Pitch 1.27mm, IPC High Density)
footprint 8S1_M (SOIC, 8-Leads, Body 4.9x3.9mm, Pitch 1.27mm, IPC Low Density)
pins: 1 PB5 (PCINT5/~{RESET}/ADC0/dW) (io), 2 PB3 (PCINT3/CLKI/ADC3) (io), 3 PB4 (PCINT4/ADC2) (io), 4 GND (power), 5 PB0 (MOSI/AIN0/OC0A/PCINT0) (io), 6 PB1 (MISO/AIN1/OC0B/INT0/PCINT1) (io), 7 PB2 (SCK/ADC1/T0/PCINT2) (io), 8 VCC (power)

## ATtiny13A-SSHR
designator U?
8-bit AVR Microcontroller, 1.8-5.5V, 20MHz, 1KB Flash, 64 Bytes EEPROM, 64 Bytes SRAM, 8-pin SOIC, Industrial Grade (-40°C to 85°C), Pb-Free, Reel; DatasheetVersion: revE, Jul-2010; PackageVersion: revC, Mar-2005; PackageReference: 8S1; PackageDescription: 8-Lead (0.150" Wide Body), Plastic Gull Wing Small Outline (JEDEC SOIC); Code_JEDEC: MS-012-AA; Code_IPC: SOIC127P600-8; ComponentLink1Description: Manufacturer URL; ComponentLink1URL: http://www.atmel.com/; ComponentLink2Description: ATtiny13A Datasheet; ComponentLink2URL: http://www.atmel.com/dyn/resources/prod_documents/doc8126.pdf; ComponentLink3Description: ATtiny13A Summary; ComponentLink3URL: http://www.atmel.com/dyn/resources/prod_documents/8126S.pdf
footprint 8S1_N (SOIC, 8-Leads, Body 4.9x3.9mm, Pitch 1.27mm, IPC Medium Density)
footprint 8S1_L (SOIC, 8-Leads, Body 4.9x3.9mm, Pitch 1.27mm, IPC High Density)
footprint 8S1_M (SOIC, 8-Leads, Body 4.9x3.9mm, Pitch 1.27mm, IPC Low Density)
pins: 1 PB5 (PCINT5/~{RESET}/ADC0/dW) (io), 2 PB3 (PCINT3/CLKI/ADC3) (io), 3 PB4 (PCINT4/ADC2) (io), 4 GND (power), 5 PB0 (MOSI/AIN0/OC0A/PCINT0) (io), 6 PB1 (MISO/AIN1/OC0B/INT0/PCINT1) (io), 7 PB2 (SCK/ADC1/T0/PCINT2) (io), 8 VCC (power)

## ATtiny13A-SSU
designator U?
8-bit AVR Microcontroller, 1.8-5.5V, 20MHz, 1KB Flash, 64 Bytes EEPROM, 64 Bytes SRAM, 8-pin SOIC, Industrial Grade (-40°C to 85°C), Pb-Free; DatasheetVersion: revE, Jul-2010; PackageVersion: revC, Mar-2005; PackageReference: 8S1; PackageDescription: 8-Lead (0.150" Wide Body), Plastic Gull Wing Small Outline (JEDEC SOIC); Code_JEDEC: MS-012-AA; Code_IPC: SOIC127P600-8; ComponentLink1Description: Manufacturer URL; ComponentLink1URL: http://www.atmel.com/; ComponentLink2Description: ATtiny13A Datasheet; ComponentLink2URL: http://www.atmel.com/dyn/resources/prod_documents/doc8126.pdf; ComponentLink3Description: ATtiny13A Summary; ComponentLink3URL: http://www.atmel.com/dyn/resources/prod_documents/8126S.pdf
footprint 8S1_N (SOIC, 8-Leads, Body 4.9x3.9mm, Pitch 1.27mm, IPC Medium Density)
footprint 8S1_L (SOIC, 8-Leads, Body 4.9x3.9mm, Pitch 1.27mm, IPC High Density)
footprint 8S1_M (SOIC, 8-Leads, Body 4.9x3.9mm, Pitch 1.27mm, IPC Low Density)
pins: 1 PB5 (PCINT5/~{RESET}/ADC0/dW) (io), 2 PB3 (PCINT3/CLKI/ADC3) (io), 3 PB4 (PCINT4/ADC2) (io), 4 GND (power), 5 PB0 (MOSI/AIN0/OC0A/PCINT0) (io), 6 PB1 (MISO/AIN1/OC0B/INT0/PCINT1) (io), 7 PB2 (SCK/ADC1/T0/PCINT2) (io), 8 VCC (power)

## ATtiny13A-SU
designator U?
8-bit AVR Microcontroller, 1.8-5.5V, 20MHz, 1KB Flash, 64 Bytes EEPROM, 64 Bytes SRAM, 8-pin SOIC, Industrial Grade (-40°C to 85°C), Pb-Free; DatasheetVersion: revE, Jul-2010; PackageVersion: revF, Apr-2008; PackageReference: 8S2; PackageDescription: 8-Lead, 0.208" Body, Plastic Small Outline Package (EIAJ); ComponentLink1Description: Manufacturer URL; ComponentLink1URL: http://www.atmel.com/; ComponentLink2Description: ATtiny13A Datasheet; ComponentLink2URL: http://www.atmel.com/dyn/resources/prod_documents/doc8126.pdf; ComponentLink3Description: ATtiny13A Summary; ComponentLink3URL: http://www.atmel.com/dyn/resources/prod_documents/8126S.pdf
footprint 8S2_N (SOP, 8-Leads, Body 5.3x5.3mm, Pitch 1.27mm, IPC Medium Density)
footprint 8S2_L (SOP, 8-Leads, Body 5.3x5.3mm, Pitch 1.27mm, IPC High Density)
footprint 8S2_M (SOP, 8-Leads, Body 5.3x5.3mm, Pitch 1.27mm, IPC Low Density)
pins: 1 PB5 (PCINT5/~{RESET}/ADC0/dW) (io), 2 PB3 (PCINT3/CLKI/ADC3) (io), 3 PB4 (PCINT4/ADC2) (io), 4 GND (power), 5 PB0 (MOSI/AIN0/OC0A/PCINT0) (io), 6 PB1 (MISO/AIN1/OC0B/INT0/PCINT1) (io), 7 PB2 (SCK/ADC1/T0/PCINT2) (io), 8 VCC (power)

## ATtiny13V-10MMU
designator U?
8-bit AVR Microcontroller, 1.8-5.5V, 1KB Flash, 64 Bytes EEPROM, 64 Bytes SRAM, 10-pin MLF, Industrial Grade (-40°C to 85°C), Pb-Free; DatasheetVersion: revJ, Aug-2010; PackageVersion: revA, Jul-2006; PackageReference: 10M1; PackageDescription: 10-pad, 3 x 3 x 1.0 mm Body, Lead Pitch 0.50 mm, 1.64 x 2.60 mm Exposed pad, Micro Lead Frame Package; Code_JEDEC: MO-229-VEED-5; ComponentLink1Description: Manufacturer URL; ComponentLink1URL: http://www.atmel.com/; ComponentLink2Description: ATtiny13  Datasheet; ComponentLink2URL: http://www.atmel.com/dyn/resources/prod_documents/doc2535.pdf; ComponentLink3Description: ATtiny13 Summary; ComponentLink3URL: http://www.atmel.com/dyn/resources/prod_documents/2535S.pdf
footprint 10M1_N (SON, 10-Leads, Body 3x3 mm, Pitch 0.5mm, IPC Medium Density)
footprint 10M1_L (SON, 10-Leads, Body 3x3 mm, Pitch 0.5mm, IPC High Density)
footprint 10M1_M (SON, 10-Leads, Body 3x3 mm, Pitch 0.5mm, IPC Low Density)
part A pins: 1 PB5 (PCINT5/~{RESET}/ADC0/dW) (io), 2 PB3 (PCINT3/CLKI/ADC3) (io), 4 PB4 (PCINT4/ADC2) (io), 5 GND (power), 6 PB0 (MOSI/AIN0/OC0A/PCINT0) (io), 7 PB1 (MISO/AIN1/OC0B/INT0/PCINT1) (io), 9 PB2 (SCK/ADC1/T0/PCINT2) (io), 10 VCC (power)
part B pins: 3 DNC, 8 DNC, 11 DAP

## ATtiny13V-10MMUR
designator U?
8-bit AVR Microcontroller, 1.8-5.5V, 1KB Flash, 64 Bytes EEPROM, 64 Bytes SRAM, 10-pin MLF, Industrial Grade (-40°C to 85°C), Pb-Free, Reel; DatasheetVersion: revJ, Aug-2010; PackageVersion: revA, Jul-2006; PackageReference: 10M1; PackageDescription: 10-pad, 3 x 3 x 1.0 mm Body, Lead Pitch 0.50 mm, 1.64 x 2.60 mm Exposed pad, Micro Lead Frame Package; Code_JEDEC: MO-229-VEED-5; ComponentLink1Description: Manufacturer URL; ComponentLink1URL: http://www.atmel.com/; ComponentLink2Description: ATtiny13  Datasheet; ComponentLink2URL: http://www.atmel.com/dyn/resources/prod_documents/doc2535.pdf; ComponentLink3Description: ATtiny13 Summary; ComponentLink3URL: http://www.atmel.com/dyn/resources/prod_documents/2535S.pdf
footprint 10M1_N (SON, 10-Leads, Body 3x3 mm, Pitch 0.5mm, IPC Medium Density)
footprint 10M1_L (SON, 10-Leads, Body 3x3 mm, Pitch 0.5mm, IPC High Density)
footprint 10M1_M (SON, 10-Leads, Body 3x3 mm, Pitch 0.5mm, IPC Low Density)
part A pins: 1 PB5 (PCINT5/~{RESET}/ADC0/dW) (io), 2 PB3 (PCINT3/CLKI/ADC3) (io), 4 PB4 (PCINT4/ADC2) (io), 5 GND (power), 6 PB0 (MOSI/AIN0/OC0A/PCINT0) (io), 7 PB1 (MISO/AIN1/OC0B/INT0/PCINT1) (io), 9 PB2 (SCK/ADC1/T0/PCINT2) (io), 10 VCC (power)
part B pins: 3 DNC, 8 DNC, 11 DAP

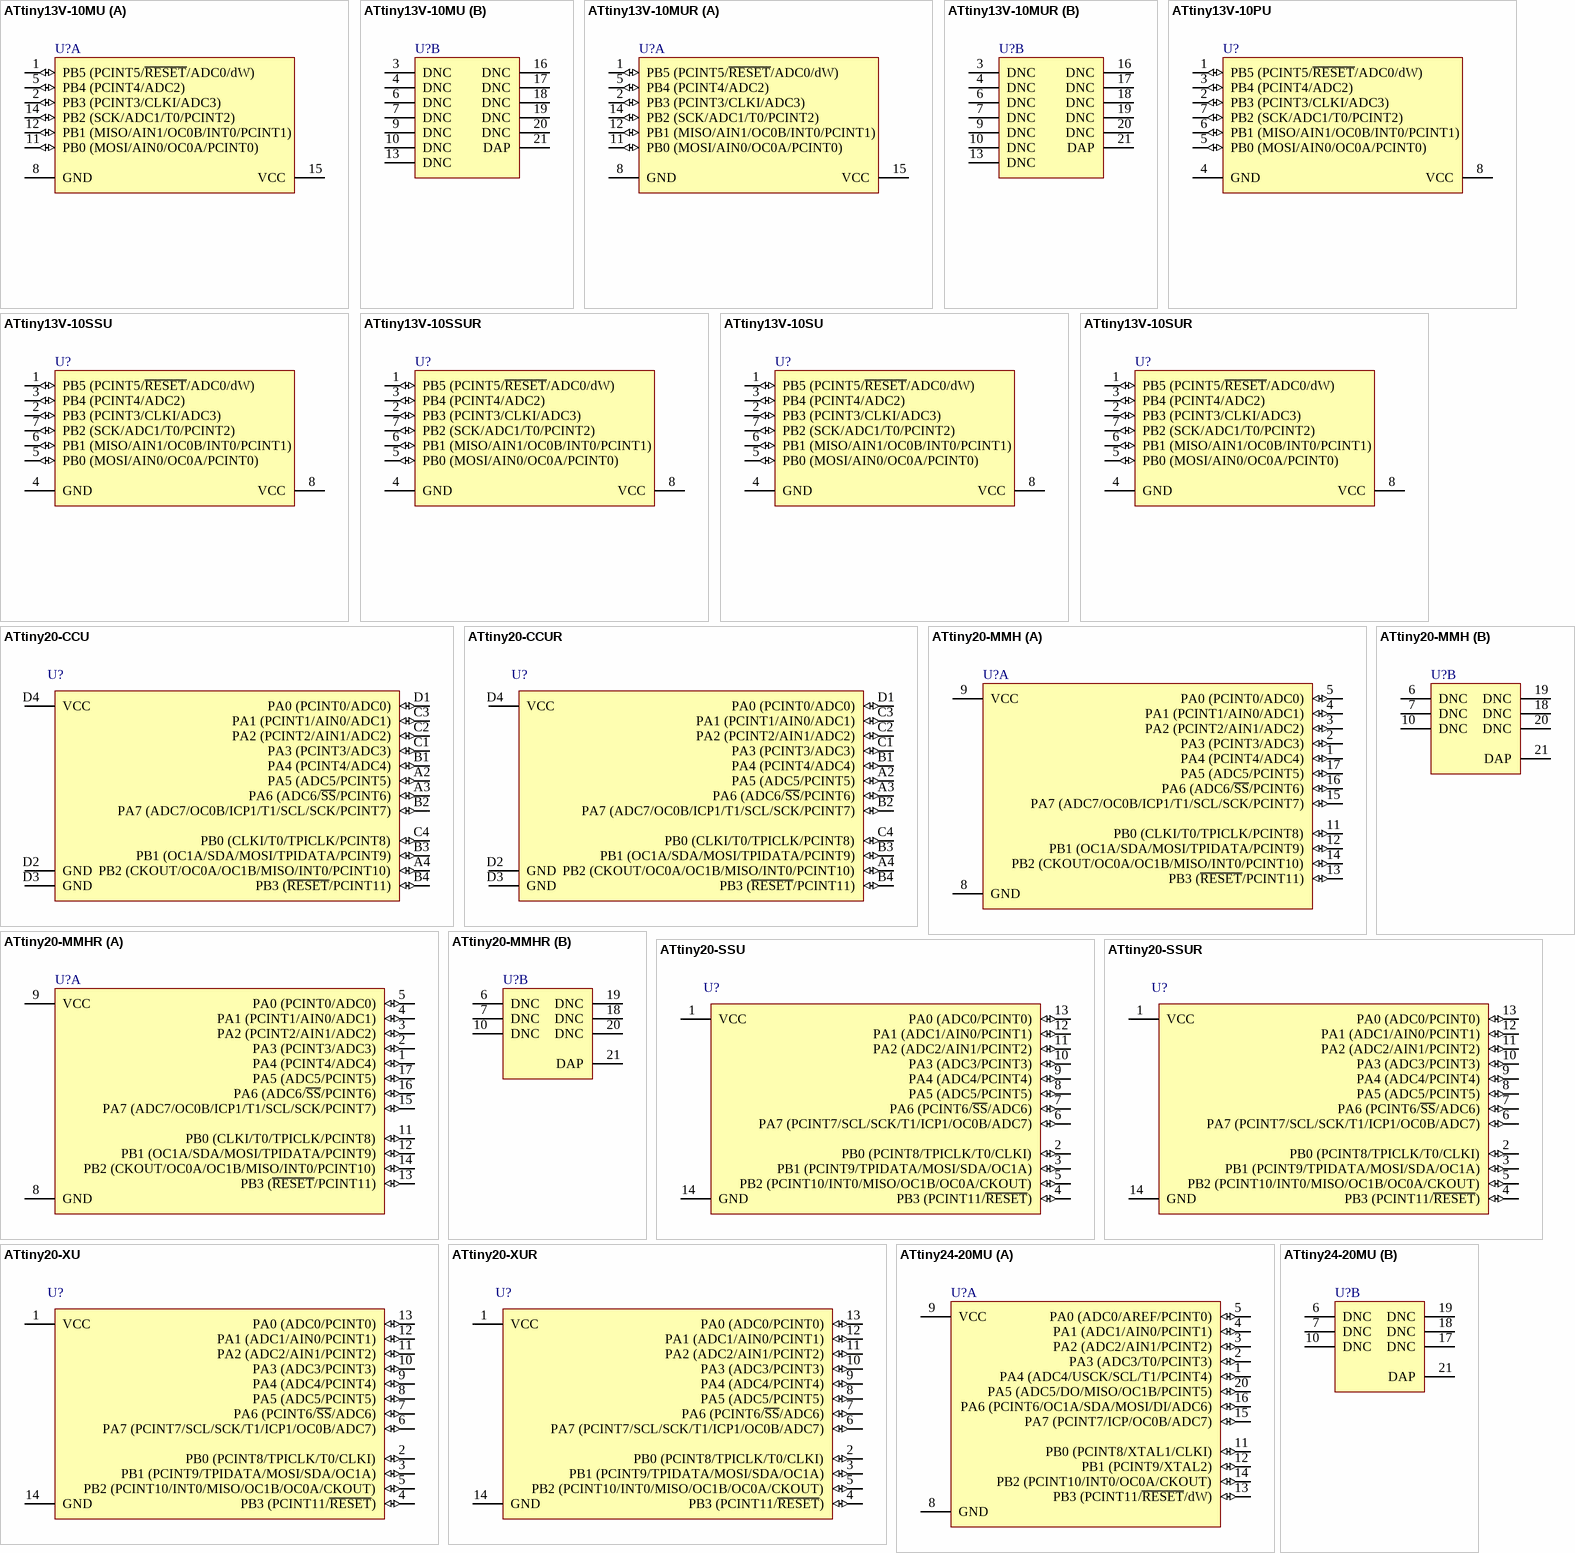
[diagram p3: symbols ATtiny13V-10MU to ATtiny24-20MU]

## ATtiny13V-10MU
designator U?
8-bit AVR Microcontroller, 1.8-5.5V, 1KB Flash, 64 Bytes EEPROM, 64 Bytes SRAM, 20-pin MLF, Industrial Grade (-40°C to 85°C), Pb-Free; DatasheetVersion: revJ, Aug-2010; PackageVersion: revA, Oct-2004; PackageReference: 20M1; PackageDescription: 20-pad, 4 x 4 x 0.8 mm Body, Lead Pitch 0.50 mm, 2.6 mm Exposed Pad, Micro Lead Frame Package (MLF); Code_JEDEC: MO-220WGGD-5; ComponentLink1Description: Manufacturer URL; ComponentLink1URL: http://www.atmel.com/; ComponentLink2Description: ATtiny13  Datasheet; ComponentLink2URL: http://www.atmel.com/dyn/resources/prod_documents/doc2535.pdf; ComponentLink3Description: ATtiny13 Summary; ComponentLink3URL: http://www.atmel.com/dyn/resources/prod_documents/2535S.pdf
footprint 20M1_N (QFN, 20-Leads, Body 4x4mm, Pitch 0.5mm, Thermal Pad 2.7x2.7mm, IPC Medium Density)
footprint 20M1_L (QFN, 20-Leads, Body 4x4mm, Pitch 0.5mm, Thermal Pad 2.7x2.7mm, IPC High Density)
footprint 20M1_M (QFN, 20-Leads, Body 4x4mm, Pitch 0.5mm, Thermal Pad 2.7x2.7mm, IPC Low Density)
part A pins: 1 PB5 (PCINT5/~{RESET}/ADC0/dW) (io), 2 PB3 (PCINT3/CLKI/ADC3) (io), 5 PB4 (PCINT4/ADC2) (io), 8 GND (power), 11 PB0 (MOSI/AIN0/OC0A/PCINT0) (io), 12 PB1 (MISO/AIN1/OC0B/INT0/PCINT1) (io), 14 PB2 (SCK/ADC1/T0/PCINT2) (io), 15 VCC (power)
part B pins: 3 DNC, 4 DNC, 6 DNC, 7 DNC, 9 DNC, 10 DNC, 13 DNC, 16 DNC, 17 DNC, 18 DNC, 19 DNC, 20 DNC, 21 DAP (power)

## ATtiny13V-10MUR
designator U?
8-bit AVR Microcontroller, 1.8-5.5V, 1KB Flash, 64 Bytes EEPROM, 64 Bytes SRAM, 20-pin MLF, Industrial Grade (-40°C to 85°C), Pb-Free, Reel; DatasheetVersion: revJ, Aug-2010; PackageVersion: revA, Oct-2004; PackageReference: 20M1; PackageDescription: 20-pad, 4 x 4 x 0.8 mm Body, Lead Pitch 0.50 mm, 2.6 mm Exposed Pad, Micro Lead Frame Package (MLF); Code_JEDEC: MO-220WGGD-5; ComponentLink1Description: Manufacturer URL; ComponentLink1URL: http://www.atmel.com/; ComponentLink2Description: ATtiny13  Datasheet; ComponentLink2URL: http://www.atmel.com/dyn/resources/prod_documents/doc2535.pdf; ComponentLink3Description: ATtiny13 Summary; ComponentLink3URL: http://www.atmel.com/dyn/resources/prod_documents/2535S.pdf
footprint 20M1_N (QFN, 20-Leads, Body 4x4mm, Pitch 0.5mm, Thermal Pad 2.7x2.7mm, IPC Medium Density)
footprint 20M1_L (QFN, 20-Leads, Body 4x4mm, Pitch 0.5mm, Thermal Pad 2.7x2.7mm, IPC High Density)
footprint 20M1_M (QFN, 20-Leads, Body 4x4mm, Pitch 0.5mm, Thermal Pad 2.7x2.7mm, IPC Low Density)
part A pins: 1 PB5 (PCINT5/~{RESET}/ADC0/dW) (io), 2 PB3 (PCINT3/CLKI/ADC3) (io), 5 PB4 (PCINT4/ADC2) (io), 8 GND (power), 11 PB0 (MOSI/AIN0/OC0A/PCINT0) (io), 12 PB1 (MISO/AIN1/OC0B/INT0/PCINT1) (io), 14 PB2 (SCK/ADC1/T0/PCINT2) (io), 15 VCC (power)
part B pins: 3 DNC, 4 DNC, 6 DNC, 7 DNC, 9 DNC, 10 DNC, 13 DNC, 16 DNC, 17 DNC, 18 DNC, 19 DNC, 20 DNC, 21 DAP (power)

## ATtiny13V-10PU
designator U?
8-bit AVR Microcontroller, 1.8-5.5V, 1KB Flash, 64 Bytes EEPROM, 64 Bytes SRAM, 8-pin PDIP, Industrial Grade (-40°C to 85°C), Pb-Free; DatasheetVersion: revJ, Aug-2010; PackageVersion: revB, Jan-2002; PackageReference: 8P3; PackageDescription: 8-Lead, 0.300" Wide Body, Plastic Dual In-Line Package (PDIP); Code_JEDEC: MS-001-BA; ComponentLink1Description: Manufacturer URL; ComponentLink1URL: http://www.atmel.com/; ComponentLink2Description: ATtiny13  Datasheet; ComponentLink2URL: http://www.atmel.com/dyn/resources/prod_documents/doc2535.pdf; ComponentLink3Description: ATtiny13 Summary; ComponentLink3URL: http://www.atmel.com/dyn/resources/prod_documents/2535S.pdf
footprint 8P3 (DIP, 8-Leads, Row Spacing 7.62mm, Pitch 2.54mm, Body 9.59x6.61mm)
pins: 1 PB5 (PCINT5/~{RESET}/ADC0/dW) (io), 2 PB3 (PCINT3/CLKI/ADC3) (io), 3 PB4 (PCINT4/ADC2) (io), 4 GND (power), 5 PB0 (MOSI/AIN0/OC0A/PCINT0) (io), 6 PB1 (MISO/AIN1/OC0B/INT0/PCINT1) (io), 7 PB2 (SCK/ADC1/T0/PCINT2) (io), 8 VCC (power)

## ATtiny13V-10SSU
designator U?
8-bit AVR Microcontroller, 1.8-5.5V, 1KB Flash, 64 Bytes EEPROM, 64 Bytes SRAM, 8-pin SOIC, Industrial Grade (-40°C to 85°C), Pb-Free; DatasheetVersion: revJ, Aug-2010; PackageVersion: revA, Oct-2001; PackageReference: S8S1; PackageDescription: 8-Lead (0.150" Wide Body), Plastic Gull Wing Small Outline (JEDEC SOIC); Code_JEDEC: MS-012; Code_IPC: SOIC127P600-8; ComponentLink1Description: Manufacturer URL; ComponentLink1URL: http://www.atmel.com/; ComponentLink2Description: ATtiny13  Datasheet; ComponentLink2URL: http://www.atmel.com/dyn/resources/prod_documents/doc2535.pdf; ComponentLink3Description: ATtiny13 Summary; ComponentLink3URL: http://www.atmel.com/dyn/resources/prod_documents/2535S.pdf
footprint S8S1_N (SOIC, 8-Leads, Body 4.9x3.9mm, Pitch 1.27mm, IPC Medium Density)
footprint S8S1_L (SOIC, 8-Leads, Body 4.9x3.9mm, Pitch 1.27mm, IPC High Density)
footprint S8S1_M (SOIC, 8-Leads, Body 4.9x3.9mm, Pitch 1.27mm, IPC Low Density)
pins: 1 PB5 (PCINT5/~{RESET}/ADC0/dW) (io), 2 PB3 (PCINT3/CLKI/ADC3) (io), 3 PB4 (PCINT4/ADC2) (io), 4 GND (power), 5 PB0 (MOSI/AIN0/OC0A/PCINT0) (io), 6 PB1 (MISO/AIN1/OC0B/INT0/PCINT1) (io), 7 PB2 (SCK/ADC1/T0/PCINT2) (io), 8 VCC (power)

## ATtiny13V-10SSUR
designator U?
8-bit AVR Microcontroller, 1.8-5.5V, 1KB Flash, 64 Bytes EEPROM, 64 Bytes SRAM, 8-pin SOIC, Industrial Grade (-40°C to 85°C), Pb-Free, Reel; DatasheetVersion: revJ, Aug-2010; PackageVersion: revA, Oct-2001; PackageReference: S8S1; PackageDescription: 8-Lead (0.150" Wide Body), Plastic Gull Wing Small Outline (JEDEC SOIC); Code_JEDEC: MS-012; Code_IPC: SOIC127P600-8; ComponentLink1Description: Manufacturer URL; ComponentLink1URL: http://www.atmel.com/; ComponentLink2Description: ATtiny13  Datasheet; ComponentLink2URL: http://www.atmel.com/dyn/resources/prod_documents/doc2535.pdf; ComponentLink3Description: ATtiny13 Summary; ComponentLink3URL: http://www.atmel.com/dyn/resources/prod_documents/2535S.pdf
footprint S8S1_N (SOIC, 8-Leads, Body 4.9x3.9mm, Pitch 1.27mm, IPC Medium Density)
footprint S8S1_L (SOIC, 8-Leads, Body 4.9x3.9mm, Pitch 1.27mm, IPC High Density)
footprint S8S1_M (SOIC, 8-Leads, Body 4.9x3.9mm, Pitch 1.27mm, IPC Low Density)
pins: 1 PB5 (PCINT5/~{RESET}/ADC0/dW) (io), 2 PB3 (PCINT3/CLKI/ADC3) (io), 3 PB4 (PCINT4/ADC2) (io), 4 GND (power), 5 PB0 (MOSI/AIN0/OC0A/PCINT0) (io), 6 PB1 (MISO/AIN1/OC0B/INT0/PCINT1) (io), 7 PB2 (SCK/ADC1/T0/PCINT2) (io), 8 VCC (power)

## ATtiny13V-10SU
designator U?
8-bit AVR Microcontroller, 1.8-5.5V, 1KB Flash, 64 Bytes EEPROM, 64 Bytes SRAM, 8-pin SOIC, Industrial Grade (-40°C to 85°C), Pb-Free; DatasheetVersion: revJ, Aug-2010; PackageVersion: revF, Apr-2008; PackageReference: 8S2; PackageDescription: 8-Lead, 0.208" Body, Plastic Small Outline Package (EIAJ); ComponentLink1Description: Manufacturer URL; ComponentLink1URL: http://www.atmel.com/; ComponentLink2Description: ATtiny13  Datasheet; ComponentLink2URL: http://www.atmel.com/dyn/resources/prod_documents/doc2535.pdf; ComponentLink3Description: ATtiny13 Summary; ComponentLink3URL: http://www.atmel.com/dyn/resources/prod_documents/2535S.pdf
footprint 8S2_N (SOP, 8-Leads, Body 5.3x5.3mm, Pitch 1.27mm, IPC Medium Density)
footprint 8S2_L (SOP, 8-Leads, Body 5.3x5.3mm, Pitch 1.27mm, IPC High Density)
footprint 8S2_M (SOP, 8-Leads, Body 5.3x5.3mm, Pitch 1.27mm, IPC Low Density)
pins: 1 PB5 (PCINT5/~{RESET}/ADC0/dW) (io), 2 PB3 (PCINT3/CLKI/ADC3) (io), 3 PB4 (PCINT4/ADC2) (io), 4 GND (power), 5 PB0 (MOSI/AIN0/OC0A/PCINT0) (io), 6 PB1 (MISO/AIN1/OC0B/INT0/PCINT1) (io), 7 PB2 (SCK/ADC1/T0/PCINT2) (io), 8 VCC (power)

## ATtiny13V-10SUR
designator U?
8-bit AVR Microcontroller, 1.8-5.5V, 1KB Flash, 64 Bytes EEPROM, 64 Bytes SRAM, 8-pin SOIC, Industrial Grade (-40°C to 85°C), Pb-Free, Reel; DatasheetVersion: revJ, Aug-2010; PackageVersion: revF, Apr-2008; PackageReference: 8S2; PackageDescription: 8-Lead, 0.208" Body, Plastic Small Outline Package (EIAJ); ComponentLink1Description: Manufacturer URL; ComponentLink1URL: http://www.atmel.com/; ComponentLink2Description: ATtiny13  Datasheet; ComponentLink2URL: http://www.atmel.com/dyn/resources/prod_documents/doc2535.pdf; ComponentLink3Description: ATtiny13 Summary; ComponentLink3URL: http://www.atmel.com/dyn/resources/prod_documents/2535S.pdf
footprint 8S2_N (SOP, 8-Leads, Body 5.3x5.3mm, Pitch 1.27mm, IPC Medium Density)
footprint 8S2_L (SOP, 8-Leads, Body 5.3x5.3mm, Pitch 1.27mm, IPC High Density)
footprint 8S2_M (SOP, 8-Leads, Body 5.3x5.3mm, Pitch 1.27mm, IPC Low Density)
pins: 1 PB5 (PCINT5/~{RESET}/ADC0/dW) (io), 2 PB3 (PCINT3/CLKI/ADC3) (io), 3 PB4 (PCINT4/ADC2) (io), 4 GND (power), 5 PB0 (MOSI/AIN0/OC0A/PCINT0) (io), 6 PB1 (MISO/AIN1/OC0B/INT0/PCINT1) (io), 7 PB2 (SCK/ADC1/T0/PCINT2) (io), 8 VCC (power)

## ATtiny20-CCU
designator U?
8-bit AVR Microcontroller, 1.8-5.5V, 12MHz, 2KB Flash, 128 Bytes SRAM, 12 GPIO pins, 15-pin UFBGA, Industrial Grade (-40°C to 85°C), Pb-Free; DatasheetVersion: revB, Apr-2011; PackageVersion: revC, Jun-2010; PackageReference: 15CC1; PackageDescription: 15-Ball Ultra Thin, Fine-Pitch BGA Package (4x4 Array) 3x3x0.6 mm Body, 0.65 mm Pitch (UFBGA); ComponentLink1Description: Manufacturer URL; ComponentLink1URL: http://www.atmel.com/; ComponentLink2Description: ATtiny20 Datasheet; ComponentLink2URL: http://www.atmel.com/dyn/resources/prod_documents/doc8235.pdf; ComponentLink3Description: ATtiny20 Summary; ComponentLink3URL: http://www.atmel.com/dyn/resources/prod_documents/8235S.pdf
footprint 15CC1 (BGA, 15-Leads, Body 3x3mm, Pitch 0.65mm)
pins: A2 PA5 (ADC5/PCINT5) (io), A3 PA6 (ADC6/~{SS}/PCINT6) (io), A4 PB2 (CKOUT/OC0A/OC1B/MISO/INT0/PCINT10) (io), B1 PA4 (PCINT4/ADC4) (io), B2 PA7 (ADC7/OC0B/ICP1/T1/SCL/SCK/PCINT7) (io), B3 PB1 (OC1A/SDA/MOSI/TPIDATA/PCINT9) (io), B4 PB3 (~{RESET}/PCINT11) (io), C1 PA3 (PCINT3/ADC3) (io), C2 PA2 (PCINT2/AIN1/ADC2) (io), C3 PA1 (PCINT1/AIN0/ADC1) (io), C4 PB0 (CLKI/T0/TPICLK/PCINT8) (io), D1 PA0 (PCINT0/ADC0) (io), D2 GND  (power), D3 GND  (power), D4 VCC  (power)

## ATtiny20-CCUR
designator U?
8-bit AVR Microcontroller, 1.8-5.5V, 12MHz, 2KB Flash, 128 Bytes SRAM, 12 GPIO pins, 15-pin UFBGA, Industrial Grade (-40°C to 85°C), Pb-Free, Reel; DatasheetVersion: revB, Apr-2011; PackageVersion: revC, Jun-2010; PackageReference: 15CC1; PackageDescription: 15-Ball Ultra Thin, Fine-Pitch BGA Package (4x4 Array) 3x3x0.6 mm Body, 0.65 mm Pitch (UFBGA); ComponentLink1Description: Manufacturer URL; ComponentLink1URL: http://www.atmel.com/; ComponentLink2Description: ATtiny20 Datasheet; ComponentLink2URL: http://www.atmel.com/dyn/resources/prod_documents/doc8235.pdf; ComponentLink3Description: ATtiny20 Summary; ComponentLink3URL: http://www.atmel.com/dyn/resources/prod_documents/8235S.pdf
footprint 15CC1 (BGA, 15-Leads, Body 3x3mm, Pitch 0.65mm)
pins: A2 PA5 (ADC5/PCINT5) (io), A3 PA6 (ADC6/~{SS}/PCINT6) (io), A4 PB2 (CKOUT/OC0A/OC1B/MISO/INT0/PCINT10) (io), B1 PA4 (PCINT4/ADC4) (io), B2 PA7 (ADC7/OC0B/ICP1/T1/SCL/SCK/PCINT7) (io), B3 PB1 (OC1A/SDA/MOSI/TPIDATA/PCINT9) (io), B4 PB3 (~{RESET}/PCINT11) (io), C1 PA3 (PCINT3/ADC3) (io), C2 PA2 (PCINT2/AIN1/ADC2) (io), C3 PA1 (PCINT1/AIN0/ADC1) (io), C4 PB0 (CLKI/T0/TPICLK/PCINT8) (io), D1 PA0 (PCINT0/ADC0) (io), D2 GND  (power), D3 GND  (power), D4 VCC  (power)

## ATtiny20-MMH
designator U?
8-bit AVR Microcontroller, 1.8-5.5V, 12MHz, 2KB Flash, 128 Bytes SRAM, 12 GPIO pins, 20-pin VQFN, Industrial Grade (-40°C to 85°C), Pb-Free; DatasheetVersion: revB, Apr-2011; PackageVersion: revB, Oct-2008; PackageReference: 20M2; PackageDescription: 20-pad, 3x3x0.85mm Body, Pitch 0.45mm, 1.55x1.55mm Exposed Pad, Plastic Very Thin QFN Package (VQFN); ComponentLink1Description: Manufacturer URL; ComponentLink1URL: http://www.atmel.com/; ComponentLink2Description: ATtiny20 Datasheet; ComponentLink2URL: http://www.atmel.com/dyn/resources/prod_documents/doc8235.pdf; ComponentLink3Description: ATtiny20 Summary; ComponentLink3URL: http://www.atmel.com/dyn/resources/prod_documents/8235S.pdf
footprint 20M2_N (QFN, 20-Leads, Body 3x3mm, Pitch 0.45mm, Thermal Pad 1.7x1.7mm, IPC Medium Density)
footprint 20M2_L (QFN, 20-Leads, Body 3x3mm, Pitch 0.45mm, Thermal Pad 1.7x1.7mm, IPC High Density)
footprint 20M2_M (QFN, 20-Leads, Body 3x3mm, Pitch 0.45mm, Thermal Pad 1.7x1.7mm, IPC Low Density)
part A pins: 1 PA4 (PCINT4/ADC4) (io), 2 PA3 (PCINT3/ADC3) (io), 3 PA2 (PCINT2/AIN1/ADC2) (io), 4 PA1 (PCINT1/AIN0/ADC1) (io), 5 PA0 (PCINT0/ADC0) (io), 8 GND (power), 9 VCC (power), 11 PB0 (CLKI/T0/TPICLK/PCINT8) (io), 12 PB1 (OC1A/SDA/MOSI/TPIDATA/PCINT9) (io), 13 PB3 (~{RESET}/PCINT11) (io), 14 PB2 (CKOUT/OC0A/OC1B/MISO/INT0/PCINT10) (io), 15 PA7 (ADC7/OC0B/ICP1/T1/SCL/SCK/PCINT7) (io), 16 PA6 (ADC6/~{SS}/PCINT6) (io), 17 PA5 (ADC5/PCINT5) (io)
part B pins: 6 DNC, 7 DNC, 10 DNC, 18 DNC, 19 DNC, 20 DNC, 21 DAP (power)

## ATtiny20-MMHR
designator U?
8-bit AVR Microcontroller, 1.8-5.5V, 12MHz, 2KB Flash, 128 Bytes SRAM, 12 GPIO pins, 20-pin VQFN, Industrial Grade (-40°C to 85°C), Pb-Free, Reel; DatasheetVersion: revB, Apr-2011; PackageVersion: revB, Oct-2008; PackageReference: 20M2; PackageDescription: 20-pad, 3x3x0.85mm Body, Pitch 0.45mm, 1.55x1.55mm Exposed Pad, Plastic Very Thin QFN Package (VQFN); ComponentLink1Description: Manufacturer URL; ComponentLink1URL: http://www.atmel.com/; ComponentLink2Description: ATtiny20 Datasheet; ComponentLink2URL: http://www.atmel.com/dyn/resources/prod_documents/doc8235.pdf; ComponentLink3Description: ATtiny20 Summary; ComponentLink3URL: http://www.atmel.com/dyn/resources/prod_documents/8235S.pdf
footprint 20M2_N (QFN, 20-Leads, Body 3x3mm, Pitch 0.45mm, Thermal Pad 1.7x1.7mm, IPC Medium Density)
footprint 20M2_L (QFN, 20-Leads, Body 3x3mm, Pitch 0.45mm, Thermal Pad 1.7x1.7mm, IPC High Density)
footprint 20M2_M (QFN, 20-Leads, Body 3x3mm, Pitch 0.45mm, Thermal Pad 1.7x1.7mm, IPC Low Density)
part A pins: 1 PA4 (PCINT4/ADC4) (io), 2 PA3 (PCINT3/ADC3) (io), 3 PA2 (PCINT2/AIN1/ADC2) (io), 4 PA1 (PCINT1/AIN0/ADC1) (io), 5 PA0 (PCINT0/ADC0) (io), 8 GND (power), 9 VCC (power), 11 PB0 (CLKI/T0/TPICLK/PCINT8) (io), 12 PB1 (OC1A/SDA/MOSI/TPIDATA/PCINT9) (io), 13 PB3 (~{RESET}/PCINT11) (io), 14 PB2 (CKOUT/OC0A/OC1B/MISO/INT0/PCINT10) (io), 15 PA7 (ADC7/OC0B/ICP1/T1/SCL/SCK/PCINT7) (io), 16 PA6 (ADC6/~{SS}/PCINT6) (io), 17 PA5 (ADC5/PCINT5) (io)
part B pins: 6 DNC, 7 DNC, 10 DNC, 18 DNC, 19 DNC, 20 DNC, 21 DAP (power)

## ATtiny20-SSU
designator U?
8-bit AVR Microcontroller, 1.8-5.5V, 12MHz, 2KB Flash, 128 Bytes SRAM, 12 GPIO pins, 14-pin SOIC, Industrial Grade (-40°C to 85°C), Pb-Free; DatasheetVersion: revB, Apr-2011; PackageVersion: revA, Feb-2002; PackageReference: 14S1; PackageDescription: 14-Lead, 0.150” Wide Body, Plastic Gull Wing Small Outline Package (SOIC); Code_JEDEC: MS-012-AB; Code_IPC: SOIC127P600-14; ComponentLink1Description: Manufacturer URL; ComponentLink1URL: http://www.atmel.com/; ComponentLink2Description: ATtiny20 Datasheet; ComponentLink2URL: http://www.atmel.com/dyn/resources/prod_documents/doc8235.pdf; ComponentLink3Description: ATtiny20 Summary; ComponentLink3URL: http://www.atmel.com/dyn/resources/prod_documents/8235S.pdf
footprint 14S1_N (SOIC, 14-Leads, Body 8.6x3.9mm, Pitch 1.27mm, IPC Medium Density)
footprint 14S1_L (SOIC, 14-Leads, Body 8.6x3.9mm, Pitch 1.27mm, IPC High Density)
footprint 14S1_M (SOIC, 14-Leads, Body 8.6x3.9mm, Pitch 1.27mm, IPC Low Density)
pins: 1 VCC (power), 2 PB0 (PCINT8/TPICLK/T0/CLKI) (io), 3 PB1 (PCINT9/TPIDATA/MOSI/SDA/OC1A) (io), 4 PB3 (PCINT11/~{RESET}) (io), 5 PB2 (PCINT10/INT0/MISO/OC1B/OC0A/CKOUT) (io), 6 PA7 (PCINT7/SCL/SCK/T1/ICP1/OC0B/ADC7) (io), 7 PA6 (PCINT6/~{SS}/ADC6) (io), 8 PA5 (ADC5/PCINT5) (io), 9 PA4 (ADC4/PCINT4) (io), 10 PA3 (ADC3/PCINT3) (io), 11 PA2 (ADC2/AIN1/PCINT2) (io), 12 PA1 (ADC1/AIN0/PCINT1) (io), 13 PA0 (ADC0/PCINT0) (io), 14 GND (power)

## ATtiny20-SSUR
designator U?
8-bit AVR Microcontroller, 1.8-5.5V, 12MHz, 2KB Flash, 128 Bytes SRAM, 12 GPIO pins, 14-pin SOIC, Industrial Grade (-40°C to 85°C), Pb-Free, Reel; DatasheetVersion: revB, Apr-2011; PackageVersion: revA, Feb-2002; PackageReference: 14S1; PackageDescription: 14-Lead, 0.150” Wide Body, Plastic Gull Wing Small Outline Package (SOIC); Code_JEDEC: MS-012-AB; Code_IPC: SOIC127P600-14; ComponentLink1Description: Manufacturer URL; ComponentLink1URL: http://www.atmel.com/; ComponentLink2Description: ATtiny20 Datasheet; ComponentLink2URL: http://www.atmel.com/dyn/resources/prod_documents/doc8235.pdf; ComponentLink3Description: ATtiny20 Summary; ComponentLink3URL: http://www.atmel.com/dyn/resources/prod_documents/8235S.pdf
footprint 14S1_N (SOIC, 14-Leads, Body 8.6x3.9mm, Pitch 1.27mm, IPC Medium Density)
footprint 14S1_L (SOIC, 14-Leads, Body 8.6x3.9mm, Pitch 1.27mm, IPC High Density)
footprint 14S1_M (SOIC, 14-Leads, Body 8.6x3.9mm, Pitch 1.27mm, IPC Low Density)
pins: 1 VCC (power), 2 PB0 (PCINT8/TPICLK/T0/CLKI) (io), 3 PB1 (PCINT9/TPIDATA/MOSI/SDA/OC1A) (io), 4 PB3 (PCINT11/~{RESET}) (io), 5 PB2 (PCINT10/INT0/MISO/OC1B/OC0A/CKOUT) (io), 6 PA7 (PCINT7/SCL/SCK/T1/ICP1/OC0B/ADC7) (io), 7 PA6 (PCINT6/~{SS}/ADC6) (io), 8 PA5 (ADC5/PCINT5) (io), 9 PA4 (ADC4/PCINT4) (io), 10 PA3 (ADC3/PCINT3) (io), 11 PA2 (ADC2/AIN1/PCINT2) (io), 12 PA1 (ADC1/AIN0/PCINT1) (io), 13 PA0 (ADC0/PCINT0) (io), 14 GND (power)

## ATtiny20-XU
designator U?
8-bit AVR Microcontroller, 1.8-5.5V, 12MHz, 2KB Flash, 128 Bytes SRAM, 12 GPIO pins, 14-pin TSSOP, Industrial Grade (-40°C to 85°C), Pb-Free; DatasheetVersion: revB, Apr-2011; PackageVersion: revB, May-2001; PackageReference: 14X; PackageDescription: 14-Pin Thin Shrink Small Outline Package, 4.4mm Body, 0.65 mm Pitch (TSSOP); Code_JEDEC: MO-153-AB-1; ComponentLink1Description: Manufacturer URL; ComponentLink1URL: http://www.atmel.com/; ComponentLink2Description: ATtiny20 Datasheet; ComponentLink2URL: http://www.atmel.com/dyn/resources/prod_documents/doc8235.pdf; ComponentLink3Description: ATtiny20 Summary; ComponentLink3URL: http://www.atmel.com/dyn/resources/prod_documents/8235S.pdf
footprint 14X_N (TSOP, 14-Leads, Body 5x4.4mm, Pitch 0.65mm, IPC Medium Density)
footprint 14X_L (TSOP, 14-Leads, Body 5x4.4mm, Pitch 0.65mm, IPC High Density)
footprint 14X_M (TSOP, 14-Leads, Body 5x4.4mm, Pitch 0.65mm, IPC Low Density)
pins: 1 VCC (power), 2 PB0 (PCINT8/TPICLK/T0/CLKI) (io), 3 PB1 (PCINT9/TPIDATA/MOSI/SDA/OC1A) (io), 4 PB3 (PCINT11/~{RESET}) (io), 5 PB2 (PCINT10/INT0/MISO/OC1B/OC0A/CKOUT) (io), 6 PA7 (PCINT7/SCL/SCK/T1/ICP1/OC0B/ADC7) (io), 7 PA6 (PCINT6/~{SS}/ADC6) (io), 8 PA5 (ADC5/PCINT5) (io), 9 PA4 (ADC4/PCINT4) (io), 10 PA3 (ADC3/PCINT3) (io), 11 PA2 (ADC2/AIN1/PCINT2) (io), 12 PA1 (ADC1/AIN0/PCINT1) (io), 13 PA0 (ADC0/PCINT0) (io), 14 GND (power)

## ATtiny20-XUR
designator U?
8-bit AVR Microcontroller, 1.8-5.5V, 12MHz, 2KB Flash, 128 Bytes SRAM, 12 GPIO pins, 14-pin TSSOP, Industrial Grade (-40°C to 85°C), Pb-Free, Reel; DatasheetVersion: revB, Apr-2011; PackageVersion: revB, May-2001; PackageReference: 14X; PackageDescription: 14-Pin Thin Shrink Small Outline Package, 4.4mm Body, 0.65 mm Pitch (TSSOP); Code_JEDEC: MO-153-AB-1; ComponentLink1Description: Manufacturer URL; ComponentLink1URL: http://www.atmel.com/; ComponentLink2Description: ATtiny20 Datasheet; ComponentLink2URL: http://www.atmel.com/dyn/resources/prod_documents/doc8235.pdf; ComponentLink3Description: ATtiny20 Summary; ComponentLink3URL: http://www.atmel.com/dyn/resources/prod_documents/8235S.pdf
footprint 14X_N (TSOP, 14-Leads, Body 5x4.4mm, Pitch 0.65mm, IPC Medium Density)
footprint 14X_L (TSOP, 14-Leads, Body 5x4.4mm, Pitch 0.65mm, IPC High Density)
footprint 14X_M (TSOP, 14-Leads, Body 5x4.4mm, Pitch 0.65mm, IPC Low Density)
pins: 1 VCC (power), 2 PB0 (PCINT8/TPICLK/T0/CLKI) (io), 3 PB1 (PCINT9/TPIDATA/MOSI/SDA/OC1A) (io), 4 PB3 (PCINT11/~{RESET}) (io), 5 PB2 (PCINT10/INT0/MISO/OC1B/OC0A/CKOUT) (io), 6 PA7 (PCINT7/SCL/SCK/T1/ICP1/OC0B/ADC7) (io), 7 PA6 (PCINT6/~{SS}/ADC6) (io), 8 PA5 (ADC5/PCINT5) (io), 9 PA4 (ADC4/PCINT4) (io), 10 PA3 (ADC3/PCINT3) (io), 11 PA2 (ADC2/AIN1/PCINT2) (io), 12 PA1 (ADC1/AIN0/PCINT1) (io), 13 PA0 (ADC0/PCINT0) (io), 14 GND (power)